# Altium footprint library MergenElektronik_Inductors_PowerInductors_SMDs.PcbLib: 7 footprints
Each footprint in its own frame and in the unit in brackets; x right, y up, seen from the top. Pads: shape width x height; smd on the part's side, far side on the other; paste and mask are expansions set on the pad; w line width, h text height; cw(c..) or ccw(c..) is an arc to the next point about the centre after c.
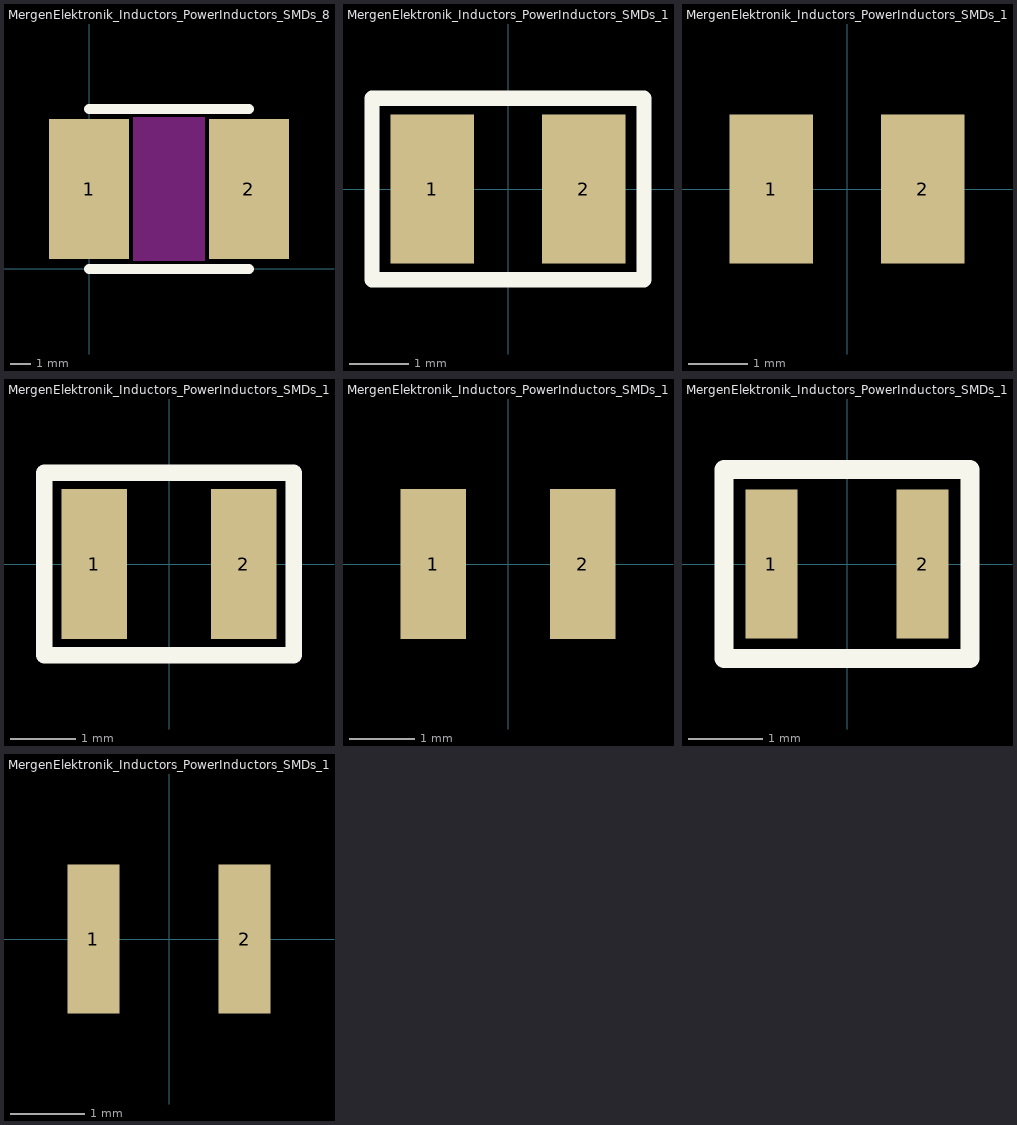
[diagram p0: the footprints below, top view; thin cyan lines are the x and y axes]

## MergenElektronik_Inductors_PowerInductors_SMDs_8x8x4mm_Shielded [mm] "8x8x4mm Shielded"
pads (2):
  rect 4x7 smd: 1(0,4) 2(8,4)
Top Overlay:
  lines w0.5: 0,0 8,0 ; 0,8 8,8
Keep-Out Layer:
  rectangle: 2.2,0.4 5.8,7.6
3D body "MergenElektronik_Inductors_PowerInductors_SMDs_8x8x4mm_Shielded.step": height 4, standoff 0, extent 0,0 8,8

## MergenElektronik_Inductors_PowerInductors_SMDs_1008_L [mm] "1008 Large"
pads (2):
  rect 1.4x2.5 smd: 1(-1.27,0) 2(1.27,0)
Top Overlay:
  lines w0.254: -2.286,-1.524 -2.286,1.524 2.286,1.524 2.286,-1.524 -2.286,-1.524
3D body "CW252016 Series Chip Inductor.stp": height 1.6, standoff 0, extent -1.25,-1 1.25,1

## MergenElektronik_Inductors_PowerInductors_SMDs_1008_L_NS [mm] "1008 Large - No Silkscreen"
pads (2):
  rect 1.4x2.5 smd: 1(-1.27,0) 2(1.27,0)
3D body "CW252016 Series Chip Inductor.stp": height 1.6, standoff 0, extent -1.25,-1 1.25,1

## MergenElektronik_Inductors_PowerInductors_SMDs_1008_M [mm] "1008 Medium"
pads (2):
  rect 1x2.3 smd: 1(-1.143,0) 2(1.143,0)
Top Overlay:
  lines w0.254: -1.905,-1.397 1.905,-1.397 1.905,1.397 -1.905,1.397 -1.905,-1.397
3D body "CW252016 Series Chip Inductor.stp": height 1.6, standoff 0, extent -1.25,-1 1.25,1

## MergenElektronik_Inductors_PowerInductors_SMDs_1008_M_NS [mm] "1008 Medium - No Silkscreen"
pads (2):
  rect 1x2.3 smd: 1(-1.143,0) 2(1.143,0)
3D body "CW252016 Series Chip Inductor.stp": height 1.6, standoff 0, extent -1.25,-1 1.25,1

## MergenElektronik_Inductors_PowerInductors_SMDs_1008_S [mm] "1008 Small"
pads (2):
  rect 0.7x2 smd: 1(-1.016,0) 2(1.016,0)
Top Overlay:
  lines w0.254: -1.651,-1.27 -1.651,1.27 1.651,1.27 1.651,-1.27 -1.651,-1.27
3D body "CW252016 Series Chip Inductor.stp": height 1.6, standoff 0, extent -1.25,-1 1.25,1

## MergenElektronik_Inductors_PowerInductors_SMDs_1008_S_NS [mm] "1008 Small - No Silkscreen"
pads (2):
  rect 0.7x2 smd: 1(-1.016,0) 2(1.016,0)
3D body "CW252016 Series Chip Inductor.stp": height 1.6, standoff 0, extent -1.25,-1 1.25,1